# Altium footprint library PCB - LEADLESS - QFN - GUERRILLARF - QFN-16 3x3MM.PcbLib: 1 footprints
Each footprint in its own frame and in the unit in brackets; x right, y up, seen from the top. Pads: shape width x height; smd on the part's side, far side on the other; paste and mask are expansions set on the pad; w line width, h text height; cw(c..) or ccw(c..) is an arc to the next point about the centre after c.
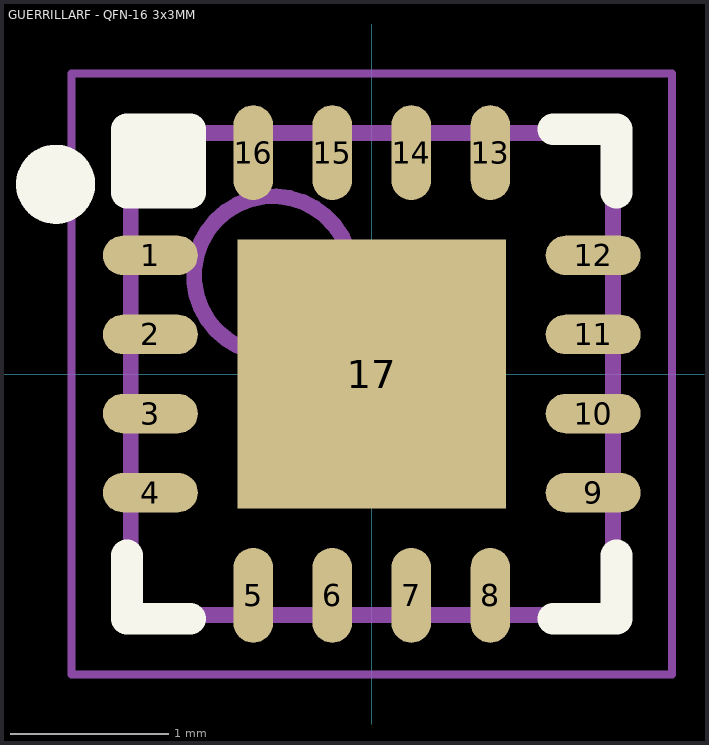
[diagram p0: the footprint, top view; thin cyan lines are the x and y axes]

## GUERRILLARF - QFN-16 3x3MM [mm] "QFN, 16-Leads, Body 3.00x3.00mm, Pitch 0.50mm, Thermal Pad 1.70x1.70mm"
height 0.9
pads (17):
  oval 0.6x0.25 smd: 1(-1.4,0.75) 2(-1.4,0.25) 3(-1.4,-0.25) 4(-1.4,-0.75) 9(1.4,-0.75) 10(1.4,-0.25) 11(1.4,0.25) 12(1.4,0.75)
  oval 0.25x0.6 smd: 5(-0.75,-1.4) 6(-0.25,-1.4) 7(0.25,-1.4) 8(0.75,-1.4) 13(0.75,1.4) 14(0.25,1.4) 15(-0.25,1.4) 16(-0.75,1.4)
  rect 1.7x1.7 smd: 17(0,0)
Top Overlay:
  circle w0.25: c-2,1.2 r0.125
  rectangle: -1.548,1.1 -1.1,1.548
  lines w0.2: -1.548,-1.148 -1.548,-1.548 -1.148,-1.548 ; 1.148,-1.548 1.548,-1.548 1.548,-1.148 ; 1.148,1.548 1.548,1.548 1.548,1.148 ; -1.548,1.148 -1.148,1.148 -1.148,1.548 -1.548,1.548 -1.548,1.148
Mechanical 13:
  circle w0.1: c-0.625,0.625 r0.5
  lines w0.1: -1.525,-1.525 -1.525,1.525 1.525,1.525 1.525,-1.525 -1.525,-1.525
Mechanical 15:
  lines w0.05: -1.9,-1.9 -1.9,1.9 1.9,1.9 1.9,-1.9 -1.9,-1.9
  lines w0.1: -0.5,0 0.5,0 ; 0,-0.5 0,0.5
3D body "GUERRILLARF - QFN-16 3x3MM.step": height 0.9, standoff 0, extent -1.535,-1.535 1.535,1.535